# Altium schematic symbol library WE-CNSW.SchLib: 1 symbol
Pins are listed as number, name and electrical type; pins without a type are passive.

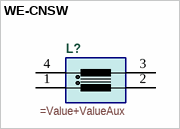
[diagram p0: symbol WE-CNSW]

## WE-CNSW
designator L?
=Description
pins: 1, 2, 3, 4